# Altium schematic symbol library ic_power.SchLib: 4 symbols
Pins are listed as number, name and electrical type; pins without a type are passive.

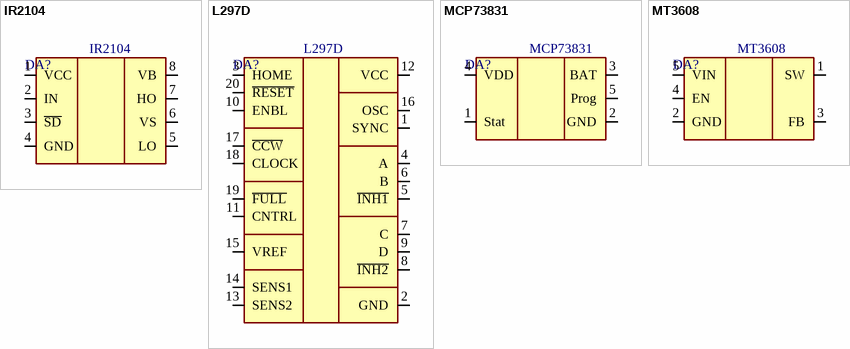
[diagram p0: symbols IR2104 to MT3608]

## IR2104
designator DA?
n-MOS driver 20V 0.2A 1MHz; Value: *; RevisionDate: *; Name: IR2104
footprint SOIC-8 (SOIC, 8-Leads, Body 4,90x3,95mm, Pitch 1,27mm, IPC Medium Density)
pins: 1 VCC, 2 IN, 3 ~{SD}, 4 GND, 5 LO, 6 VS, 7 HO, 8 VB

## L297D
designator DA?
Stepper motor controller 7V 1W; Value: *; RevisionDate: *; Name: L297D
footprint SOIC-20L/7.5mm (SOIC, 20-Leads, Body 12,70x7,50mm, Pitch 1,27mm, IPC Medium Density)
footprint DIP-20
pins: 1 SYNC, 2 GND, 3 HOME, 4 A, 5 ~{INH1}, 6 B, 7 C, 8 ~{INH2}, 9 D, 10 ENBL, 11 CNTRL, 12 VCC, 13 SENS2, 14 SENS1, 15 VREF, 16 OSC, 17 ~{CCW}, 18 CLOCK, 19 ~{FULL}, 20 ~{RESET}

## MCP73831
designator DA?
Li-ion charger 0.5A 5.5V; Value: *; RevisionDate: *; Name: MCP73831
footprint SOT-25 (SOT23, 5-Leads, Body 3,00x2,85mm, Pitch 0,95mm, IPC Medium Density)
pins: 1 Stat, 2 GND, 3 BAT, 4 VDD, 5 Prog

## MT3608
designator DA?
Step-up 26V 2A 1.2MHz; Value: *; RevisionDate: *; Name: MT3608
footprint SOT-26 (SOT23, 6-Leads, Body 3,00x2,85mm, Pitch 0,95mm, IPC Medium Density)
pins: 1 SW, 2 GND, 3 FB, 4 EN, 5 VIN